# Altium schematic symbol library L_IEC.SchLib: 19 symbols
Pins are listed as number, name and electrical type; pins without a type are passive.

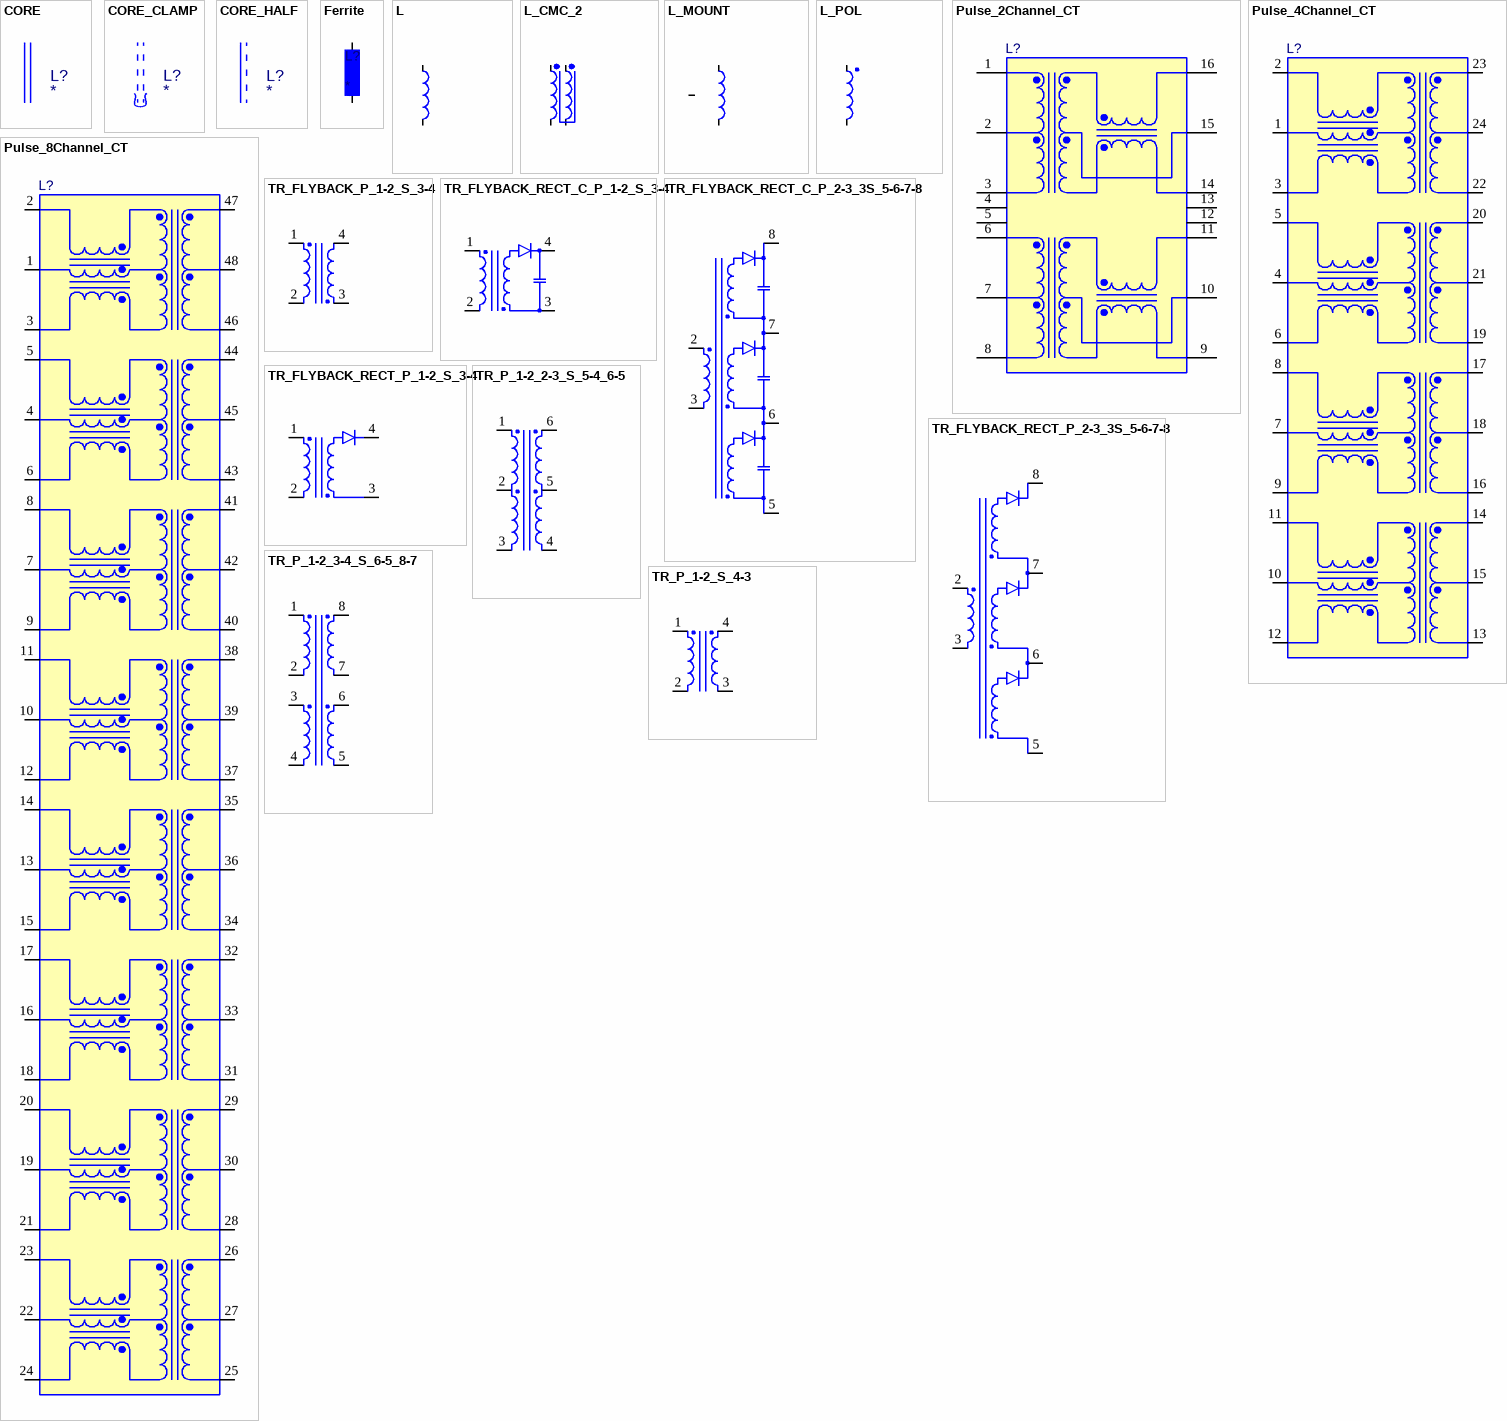
[diagram p0: symbols CORE to TR_P_1-2_S_4-3]

## CORE
designator L?

## CORE_CLAMP
designator L?

## CORE_HALF
designator L?

## Ferrite
designator L?
Generic Ferrite
pins: 1, 2

## L
designator L?
Generic inductor symbol
pins: 1, 2

## L_CMC_2
designator L?
Common Mode Choke 2 Channels
pins: 1, 2, 3, 4

## L_MOUNT
designator L?
Generic inductor symbol with moounting pin
pins: 1, 2, 3

## L_POL
designator L?
Generic polarized inductor symbol
pins: 1, 2

## Pulse_2Channel_CT
designator L?
2 Channel Ethernet Transformer
pins: 1 TD+, 2 TCT, 3 TD-, 4 NC, 5 NC, 6 RD+, 7 RCT, 8 RD-, 9 RX-, 10 RXCT, 11 RX+, 12 NC, 13 NC, 14 TX-, 15 TXCT, 16 TX+

## Pulse_4Channel_CT
designator L?
4Channel (1000 BaseT) Ethernet Transformer
pins: 1, 2, 3, 4, 5, 6, 7, 8, 9, 10, 11, 12, 13, 14, 15, 16, 17, 18, 19, 20, 21, 22, 23, 24

## Pulse_8Channel_CT
designator L?
8 Channel (Double 1000 BaseT) Ethernet Transformer
pins: 1, 2, 3, 4, 5, 6, 7, 8, 9, 10, 11, 12, 13, 14, 15, 16, 17, 18, 19, 20, 21, 22, 23, 24, 25, 26, 27, 28, 29, 30, 31, 32, 33, 34, 35, 36, 37, 38, 39, 40, 41, 42, 43, 44, 45, 46, 47, 48

## TR_FLYBACK_P_1-2_S_3-4
designator L?
Generic flyback transformer symbol
pins: 1, 2, 3, 4

## TR_FLYBACK_RECT_C_P_1-2_S_3-4
designator L?
Generic flyback transformer with rectifier and capacitor
pins: 1, 2, 3, 4

## TR_FLYBACK_RECT_C_P_2-3_3S_5-6-7-8
designator L?
Generic flyback transformer with three outputs, rectifier and capacitor
pins: 2, 3, 5, 6, 7, 8

## TR_FLYBACK_RECT_P_1-2_S_3-4
designator L?
Generic flyback transformer with rectifier
pins: 1, 2, 3, 4

## TR_FLYBACK_RECT_P_2-3_3S_5-6-7-8
designator L?
Generic flyback transformer with three outputs and rectifier
pins: 2, 3, 5, 6, 7, 8

## TR_P_1-2_2-3_S_5-4_6-5
designator L?
Generic transformer
pins: 1, 2, 3, 4, 5, 6

## TR_P_1-2_3-4_S_6-5_8-7
designator L?
Generic transformer
pins: 1, 2, 3, 4, 5, 6, 7, 8

## TR_P_1-2_S_4-3
designator L?
Generic transformer
pins: 1, 2, 3, 4